# Altium footprint library SK6812MINIE.PcbLib: 1 footprints
Each footprint in its own frame and in the unit in brackets; x right, y up, seen from the top. Pads: shape width x height; smd on the part's side, far side on the other; paste and mask are expansions set on the pad; w line width, h text height; cw(c..) or ccw(c..) is an arc to the next point about the centre after c.
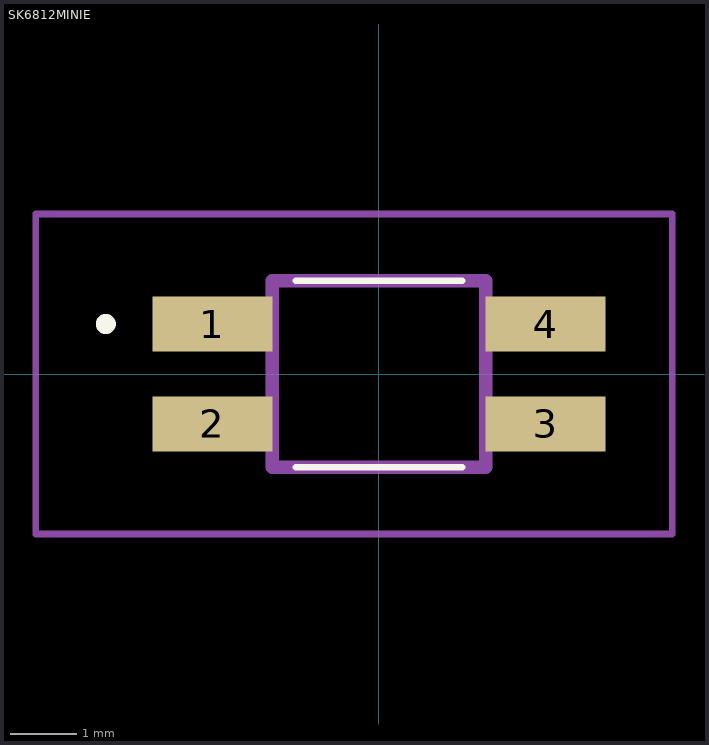
[diagram p0: the footprint, top view; thin cyan lines are the x and y axes]

## SK6812MINIE [mm]
pads (4):
  rect 1.8x0.82 smd: 1(-2.5,0.75) 2(-2.5,-0.75) 3(2.5,-0.75) 4(2.5,0.75)
Top Overlay:
  lines w0.1: -1.25,-1.4 1.25,-1.4 ; -1.25,-1.4 1.25,-1.4 ; -1.25,-1.4 -1.25,-1.4 ; -1.25,1.4 1.25,1.4 ; -1.25,1.4 1.25,1.4 ; -1.25,1.4 -1.25,1.4 ; 1.25,-1.4 1.25,-1.4 ; 1.25,1.4 1.25,1.4
  lines w0.2: -4.1,0.7 -4.1,0.7 ; -4.1,0.7 ccw(c-4.1,0.75) -4.1,0.8 ; -4.1,0.7 cw(c-4.1,0.75) -4.1,0.8 ; -4.1,0.7 -4.1,0.7 ; -4.1,0.7 ccw(c-4.1,0.75) -4.1,0.8 ; -4.1,0.8 -4.1,0.8
Mechanical 15:
  lines w0.2: -1.6,-1.4 1.6,-1.4 1.6,1.4 -1.6,1.4 -1.6,-1.4
Mechanical 20:
  lines w0.1: -5.15,-2.4 4.4,-2.4 4.4,2.4 -5.15,2.4 -5.15,-2.4